# EAGLE library part PESD5V0U5BF (library RitLaunchInitiative)
TVS Diode array| TVS DIODE 5VWM | 5 channels bi-directional
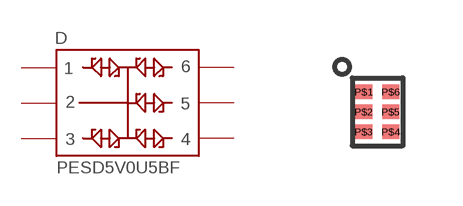
[diagram p15: symbol with the pads of 6-XFDFN; footprint 6-XFDFN]

Designator prefix D

## PESD5V0U5BF (DIGI: 568-7355-1-ND; MPN: PESD5V0U5BF)  [6-XFDFN]
P$1  P$1
P$2  P$2
P$3  P$3
P$4  P$4
P$5  P$5
P$6  P$6

## Footprint 6-XFDFN (pad centres in mm)
smd 0.425 x 0.37: P$1 -0.338,0.5; P$2 -0.338,0; P$3 -0.338,-0.5; P$4 0.338,-0.5; P$5 0.338,0; P$6 0.338,0.5